# Altium footprint library resistor-power.PCBLIB: 89 footprints (part 5 of 6)
Each footprint in its own frame and in the unit in brackets; x right, y up, seen from the top. Pads: shape width x height; smd on the part's side, far side on the other; paste and mask are expansions set on the pad; w line width, h text height; cw(c..) or ccw(c..) is an arc to the next point about the centre after c.
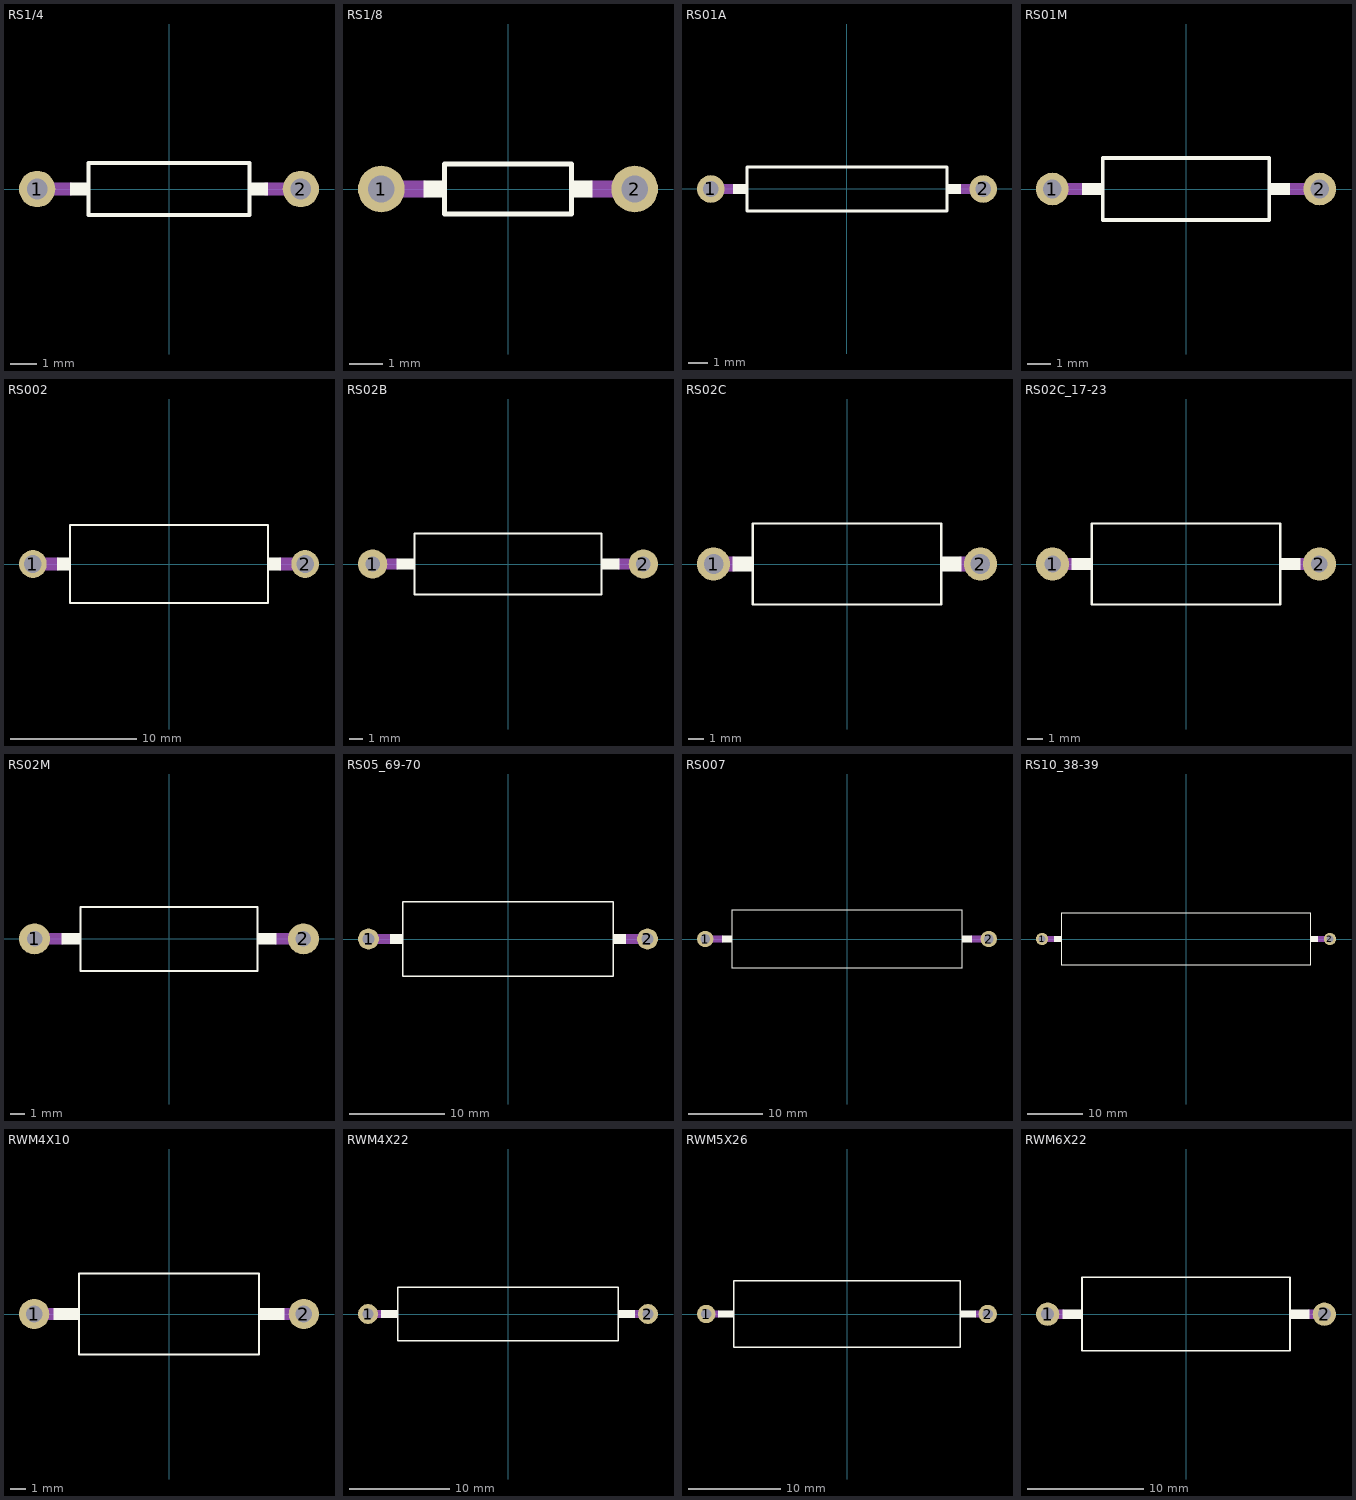
[diagram p4: the footprints below, top view; thin cyan lines are the x and y axes]

## RS1/4 [mil]
pads (2):
  round 55.12 hole 31.5: 1(-200,0) 2(200,0)
Top Overlay:
  rectangle: -150,-9.84 -125.2,9.84
  rectangle: 125.2,-9.84 150,9.84
  lines w6: -122.24,-39.37 122.24,-39.37 122.24,39.37 -122.24,39.37 -122.24,-39.37
Mechanical 16:
  lines w19.69: -200,0 -150,0 ; 147.24,0 200,0

## RS1/8 [mil]
pads (2):
  round 55.12 hole 31.5: 1(-150,0) 2(150,0)
Top Overlay:
  rectangle: -100,-9.84 -77.95,9.84
  rectangle: 77.95,-9.84 100,9.84
  lines w6: -75,-29.53 75,-29.53 75,29.53 -75,29.53 -75,-29.53
Mechanical 16:
  lines w19.69: -150,0 -100,0 ; 100,0 150,0

## RS01A [mil]
pads (2):
  round 55.12 hole 31.5: 1(-272.24,0) 2(272.24,0)
Top Overlay:
  rectangle: -227.76,-9.84 -202.95,9.84
  rectangle: 202.95,-9.84 227.76,9.84
  lines w6: -200,-44.29 200,-44.29 200,44.29 -200,44.29 -200,-44.29
Mechanical 16:
  lines w19.69: -272.24,0 -227.76,0 ; 225,0 272.24,0

## RS01M [mil]
pads (2):
  round 55.12 hole 31.5: 1(-225,0) 2(225,0)
Top Overlay:
  rectangle: -175,-9.84 -142.91,9.84
  rectangle: 142.91,-9.84 175,9.84
  lines w6: -139.96,-52.17 139.96,-52.17 139.96,52.17 -139.96,52.17 -139.96,-52.17
Mechanical 16:
  lines w19.69: -225,0 -175,0 ; 175,0 225,0

## RS002 [mm]
pads (2):
  round 2.2 hole 1.4: 1(-10.795,0) 2(10.795,0)
Top Overlay:
  rectangle: -8.89,-0.5 -7.93,0.5
  rectangle: 7.93,-0.5 8.89,0.5
  lines w0.152: -7.855,-3.1 7.855,-3.1 7.855,3.1 -7.855,3.1 -7.855,-3.1
Mechanical 16:
  lines w1: -10.795,0 -8.89,0 ; 8.89,0 10.795,0

## RS02B [mm]
pads (2):
  round 2.2 hole 1.1: 1(-10.16,0) 2(10.16,0)
Top Overlay:
  rectangle: -8.37,-0.4 -7.105,0.4
  rectangle: 7.105,-0.4 8.37,0.4
  lines w0.152: -7.03,-2.3 7.03,-2.3 7.03,2.3 -7.03,2.3 -7.03,-2.3
Mechanical 16:
  lines w0.8: -10.16,0 -8.37,0 ; 8.37,0 10.16,0

## RS02C [mm]
pads (2):
  round 2.2 hole 1.3: 1(-8.89,0) 2(8.89,0)
Top Overlay:
  rectangle: -7.62,-0.5 -6.355,0.5
  rectangle: 6.355,-0.5 7.62,0.5
  lines w0.152: -6.28,-2.7 6.28,-2.7 6.28,2.7 -6.28,2.7 -6.28,-2.7
Mechanical 16:
  lines w1: -8.89,0 -7.62,0 ; 7.62,0 8.89,0

## RS02C_17-23 [mm]
pads (2):
  round 2.2 hole 1.1: 1(-8.89,0) 2(8.89,0)
Top Overlay:
  rectangle: -7.62,-0.4 -6.355,0.4
  rectangle: 6.355,-0.4 7.62,0.4
  lines w0.152: -6.28,-2.7 6.28,-2.7 6.28,2.7 -6.28,2.7 -6.28,-2.7
Mechanical 16:
  lines w0.8: -8.89,0 -7.62,0 ; 7.62,0 8.89,0

## RS02M [mm]
pads (2):
  round 2.2 hole 1.1: 1(-9.525,0) 2(9.525,0)
Top Overlay:
  rectangle: -7.62,-0.4 -6.355,0.4
  rectangle: 6.355,-0.4 7.62,0.4
  lines w0.152: -6.28,-2.275 6.28,-2.275 6.28,2.25 -6.28,2.25 -6.28,-2.275
Mechanical 16:
  lines w0.8: -9.525,0 -7.62,0 ; 7.62,0 9.525,0

## RS05_69-70 [mm]
pads (2):
  round 2.2 hole 1.3: 1(-14.605,0) 2(14.605,0)
Top Overlay:
  rectangle: -12.37,-0.5 -11.105,0.5
  rectangle: 11.105,-0.5 12.37,0.5
  lines w0.152: -11.03,-3.875 11.03,-3.875 11.03,3.875 -11.03,3.875 -11.03,-3.875
Mechanical 16:
  lines w1: -14.605,0 -12.37,0 ; 12.37,0 14.605,0

## RS007 [mm]
pads (2):
  round 2.2 hole 1.3: 1(-18.98,0) 2(18.98,0)
Top Overlay:
  rectangle: -16.745,-0.5 -15.48,0.5
  rectangle: 15.48,-0.5 16.745,0.5
  lines w0.152: -15.405,-3.875 15.405,-3.875 15.405,3.875 -15.405,3.875 -15.405,-3.875
Mechanical 16:
  lines w1: -18.98,0 -16.745,0 ; 16.745,0 18.98,0

## RS10_38-39 [mm]
pads (2):
  round 2.2 hole 1.3: 1(-26.035,0) 2(26.035,0)
Top Overlay:
  rectangle: -23.87,-0.5 -22.605,0.5
  rectangle: 22.605,-0.5 23.87,0.5
  lines w0.152: -22.53,-4.675 22.53,-4.675 22.53,4.675 -22.53,4.675 -22.53,-4.675
Mechanical 16:
  lines w1: -26.035,0 -23.87,0 ; 23.87,0 26.035,0

## RWM4X10 [mm]
pads (2):
  round 2 hole 1.1: 1(-8.89,0) 2(8.89,0)
Top Overlay:
  rectangle: -7.62,-0.4 -6.005,0.4
  rectangle: 6.005,-0.4 7.62,0.4
  lines w0.152: -5.93,-2.675 5.93,-2.675 5.93,2.675 -5.93,2.675 -5.93,-2.675
Mechanical 16:
  lines w0.8: -8.89,0 -7.62,0 ; 7.62,0 8.89,0

## RWM4X22 [mm]
pads (2):
  round 2 hole 1.1: 1(-13.94,0) 2(13.94,0)
Top Overlay:
  rectangle: -12.67,-0.4 -11.055,0.4
  rectangle: 11.055,-0.4 12.67,0.4
  lines w0.152: -10.98,-2.675 10.98,-2.675 10.98,2.675 -10.98,2.675 -10.98,-2.675
Mechanical 16:
  lines w0.8: -13.94,0 -12.67,0 ; 12.67,0 13.94,0

## RWM5X26 [mm]
pads (2):
  round 2 hole 1.1: 1(-15.24,0) 2(15.24,0)
Top Overlay:
  rectangle: -13.97,-0.4 -12.355,0.4
  rectangle: 12.355,-0.4 13.97,0.4
  lines w0.152: -12.28,-3.625 12.28,-3.625 12.28,3.625 -12.28,3.625 -12.28,-3.625
Mechanical 16:
  lines w0.8: -15.24,0 -13.97,0 ; 13.97,0 15.24,0

## RWM6X22 [mm]
pads (2):
  round 2 hole 1.1: 1(-11.89,0) 2(11.89,0)
Top Overlay:
  rectangle: -10.62,-0.4 -9.005,0.4
  rectangle: 9.005,-0.4 10.62,0.4
  lines w0.152: -8.93,-3.15 8.93,-3.15 8.93,3.175 -8.93,3.175 -8.93,-3.15
Mechanical 16:
  lines w0.8: -11.89,0 -10.62,0 ; 10.62,0 11.89,0